# Altium footprint library mylib.PcbLib: 1 footprints
Each footprint in its own frame and in the unit in brackets; x right, y up, seen from the top. Pads: shape width x height; smd on the part's side, far side on the other; paste and mask are expansions set on the pad; w line width, h text height; cw(c..) or ccw(c..) is an arc to the next point about the centre after c.
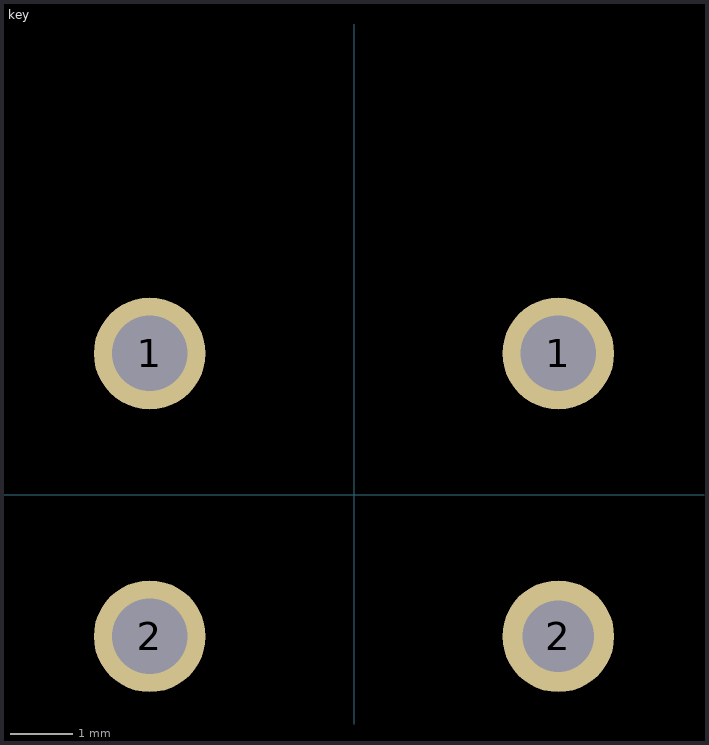
[diagram p0: the footprint, top view; thin cyan lines are the x and y axes]

## key [mm]
pads (4):
  round 1.778 hole 1.2: 1(-3.25,2.25) 1(3.25,2.25) 2(-3.25,-2.25)
  round 1.778 hole 1.143: 2(3.25,-2.25)
Top Layer:
  pour cut-out: -3.175,6.985
Top Layer keep-out:
  region: -3.175,6.35